# EAGLE library part HEADER_16P (library Bauteile)
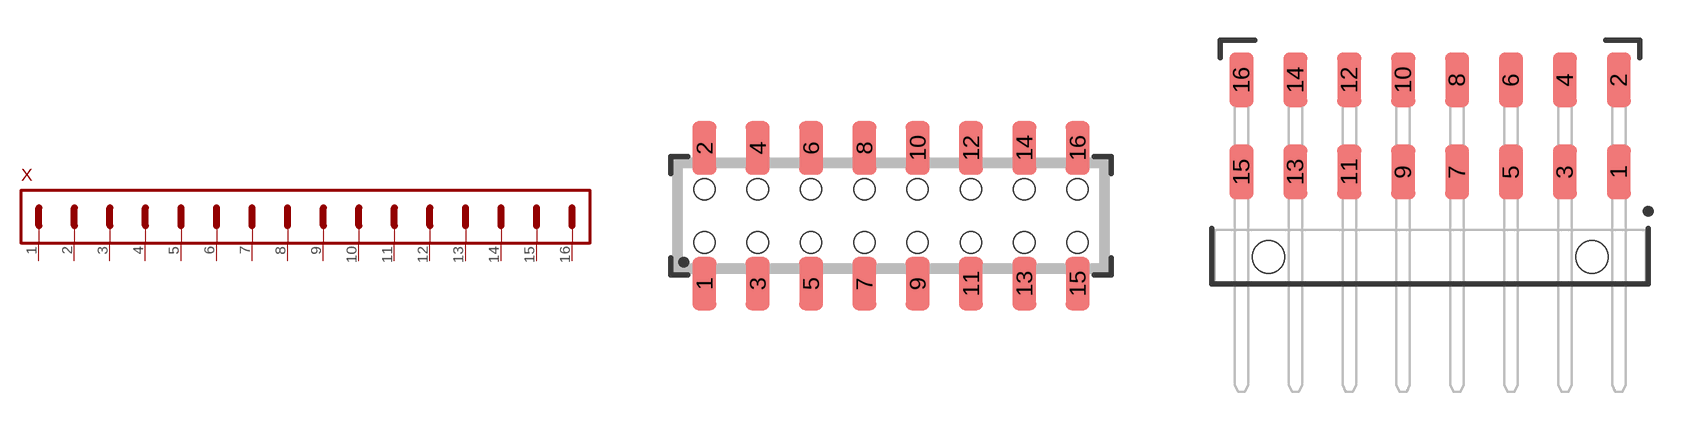
[diagram p190: symbol with the pads of HEADER_16P_2ROW_RM2.00MM_SMD_WUERTH_62131621821; footprints HEADER_16P_2ROW_RM2.00MM_SMD_WUERTH_62131621821, HEADER_16P_2ROW_RM2.00MM_SMD_ANGLED_WUERTH_621316284521]

Designator prefix X

## HEADER_16P(WR-PHD_2.0MM_BOTTOM_ENTRY) (ID: 62131621821)  [HEADER_16P_2ROW_RM2.00MM_SMD_WUERTH_62131621821]
1  PIN1
2  PIN2
3  PIN3
4  PIN4
5  PIN5
6  PIN6
7  PIN7
8  PIN8
9  PIN9
10  PIN10
11  PIN11
12  PIN12
13  PIN13
14  PIN14
15  PIN15
16  PIN16

## HEADER_16P(RM2.00MM_2ROW_SMD_ANGLED) (ID: 621316284521)  [HEADER_16P_2ROW_RM2.00MM_SMD_ANGLED_WUERTH_621316284521]
Pads as for HEADER_16P_2ROW_RM2.00MM_SMD_WUERTH_62131621821

## Footprint HEADER_16P_2ROW_RM2.00MM_SMD_WUERTH_62131621821 (pad centres in mm)
smd 0.9 x 2: 1 -7,-2.55; 2 -7,2.55; 3 -5,-2.55; 4 -5,2.55; 5 -3,-2.55; 6 -3,2.55; 7 -1,-2.55; 8 -1,2.55; 9 1,-2.55; 10 1,2.55; 11 3,-2.55; 12 3,2.55; 13 5,-2.55; 14 5,2.55; 15 7,-2.55; 16 7,2.55
hole 0.8 at -3,1
hole 0.8 at -3,-1
hole 0.8 at -1,1
hole 0.8 at -1,-1
hole 0.8 at 1,1
hole 0.8 at 1,-1
hole 0.8 at 3,1
hole 0.8 at 3,-1
hole 0.8 at 5,1
hole 0.8 at 7,1
hole 0.8 at 5,-1
hole 0.8 at 7,-1
hole 0.8 at -5,-1
hole 0.8 at -7,-1
hole 0.8 at -5,1
hole 0.8 at -7,1

## Footprint HEADER_16P_2ROW_RM2.00MM_SMD_ANGLED_WUERTH_621316284521 (pad centres in mm)
smd 0.9 x 2.03: 1 7,-1.71; 2 7,1.71; 3 5,-1.71; 4 5,1.71; 5 3,-1.71; 6 3,1.71; 7 1,-1.71; 8 1,1.71; 9 -1,-1.71; 10 -1,1.71; 11 -3,-1.71; 12 -3,1.71; 13 -5,-1.71; 14 -5,1.71; 15 -7,-1.71; 16 -7,1.71
hole 1.2 at 6,-4.87
hole 1.2 at -6,-4.87